# Altium footprint library PPPC042LFBN-RC.PcbLib: 1 footprints
Each footprint in its own frame and in the unit in brackets; x right, y up, seen from the top. Pads: shape width x height; smd on the part's side, far side on the other; paste and mask are expansions set on the pad; w line width, h text height; cw(c..) or ccw(c..) is an arc to the next point about the centre after c.
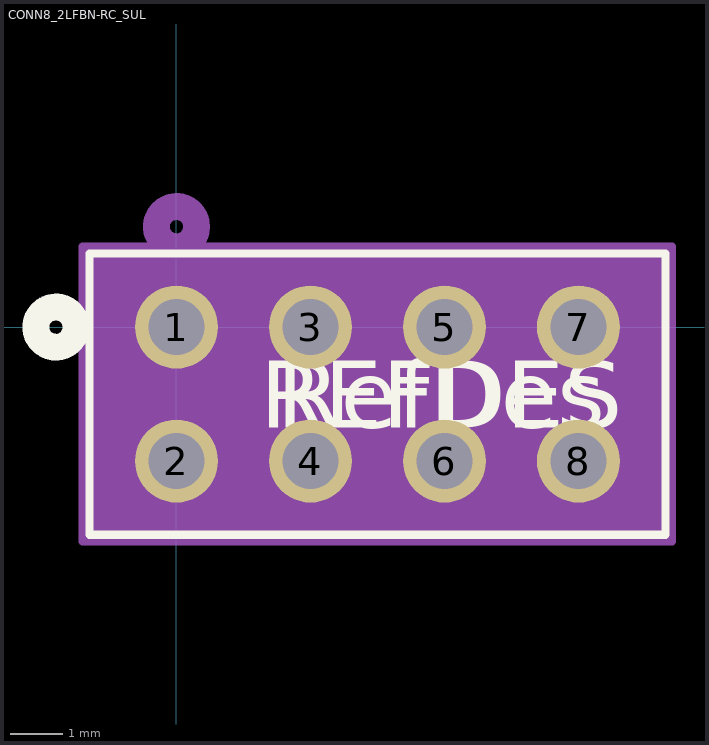
[diagram p0: the footprint, top view; thin cyan lines are the x and y axes]

## CONN8_2LFBN-RC_SUL [mil]
pads (8):
  round 62 / inner round 60 / far side round 62 hole 42 paste-31 mask+0: 1(0,0) 2(0,-100) 3(100,0) 4(100,-100) 5(200,0) 6(200,-100) 7(300,0) 8(300,-100)
Top Overlay:
  circle w20: c-90,0 r15
  lines w6: -65,-155 365,-155 365,55 -65,55 -65,-155
  text "RefDes" at 75,-75 h50
  text "REFDES" at 62.5,-75 h50
Bottom Overlay:
  circle w20: c-90,0 r15
Mechanical 13:
  circle w20: c0,75 r15
  lines w1: -60,-150 360,-150 360,50 -60,50 -60,-150
  text "RefDes2" at 62.5,-75 h50
Mechanical 15:
  region: 370,60 -70,60 -70,-160 370,-160
  lines w6: -70,-160 -70,60 370,60 370,-160 -70,-160